# Altium schematic symbol library MiniTV.SchLib: 3 symbols
Pins are listed as number, name and electrical type; pins without a type are passive.

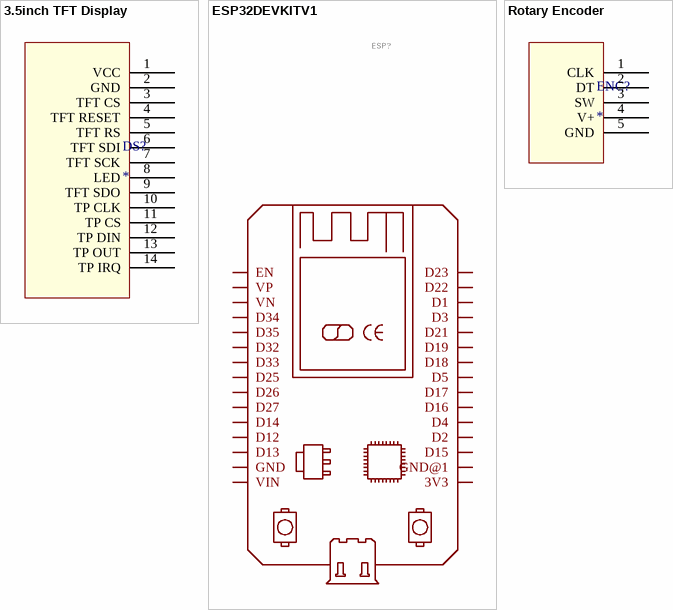
[diagram p0: symbols 3.5inch TFT Display to Rotary Encoder]

## 3.5inch TFT Display
designator DS?
footprint 3.5inch SPI Display
pins: 1 VCC, 2 GND, 3 TFT CS, 4 TFT RESET, 5 TFT RS, 6 TFT SDI, 7 TFT SCK, 8 LED, 9 TFT SDO, 10 TP CLK, 11 TP CS, 12 TP DIN, 13 TP OUT, 14 TP IRQ

## ESP32DEVKITV1
designator ESP?, comment https://github.com/shridattdudhat  (value not drawn)
GateName_1: G$1; SymbolName_1: ESP32-DEVKITV1; DeviceSetName: ESP32DEVKITV1; LibraryName: ESP32-DEVKITV1; Package: ESP32-DEVKITV1
footprint ESP32-DEVKITV1
pins: 3V3 (io), D1 (io), D2 (io), D3 (io), D4 (io), D5 (io), D12 (io), D13 (io), D14 (io), D15 (io), D16 (io), D17 (io), D18 (io), D19 (io), D21 (io), D22 (io), D23 (io), D25 (io), D26 (io), D27 (io), D32 (io), D33 (io), D34 (io), D35 (io), EN (io), GND (io), GND@1 (io), VIN (io), VN (io), VP (io)

## Rotary Encoder
designator ENC?
footprint Rotary Encoder
pins: 1 CLK, 2 DT, 3 SW, 4 V+, 5 GND